# Altium schematic symbol library Miscellaneous.SchLib: 2 symbols
Pins are listed as number, name and electrical type; pins without a type are passive.

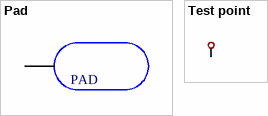
[diagram p0: symbols Pad to Test point]

## Pad
designator P, comment PAD
footprint PAD
pins: 1

## Test point
designator TP?
Test point
footprint TEST POINT
pins: 1 33